# EAGLE library part PIC18F47K42-E_PT (library SamacSys_Parts)
MICROCHIP - PIC18F47K42-E/PT - 128KB F , 8KB RAM, 1KB EEPROM, 12- ADC2, V I , DMA, MAP, DIA, DAC, C , PWM, CWG, HLT, WWDT, SCAN/CRC, ZCD, PPS, UART, SPI/I2C, IDLE/DOZE/PMD 44 TQFP 10 10 1 TRAY Source: Datasheet <https://www.mouser.com/datasheet/2/268/Microchip 8bit mcu PIC18 L_F26_27_45_46_47_55_56_-1281643.pdf>
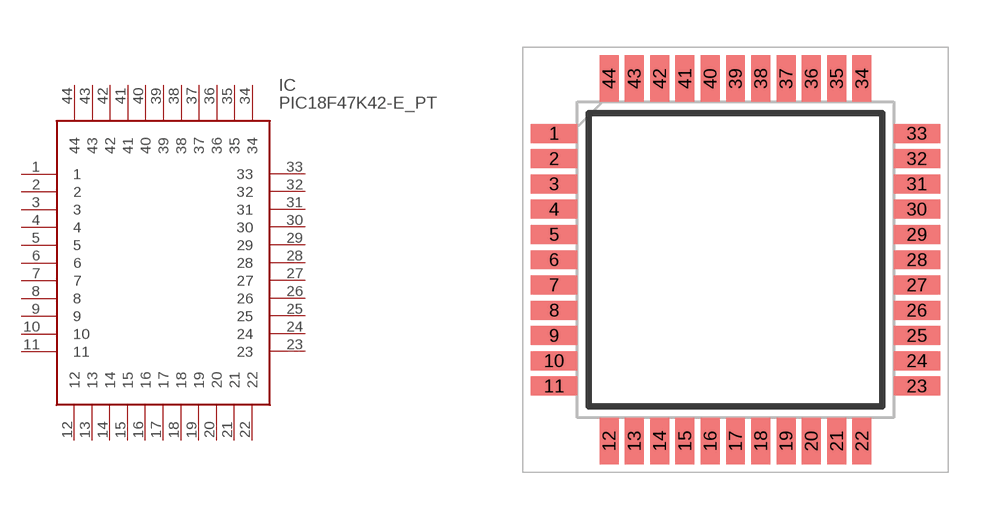
[diagram p6: symbol with the pads of QFP80P1200X1200X120-44N; footprint QFP80P1200X1200X120-44N]

Designator prefix IC

## PIC18F47K42-E_PT (DESCRIPTION: MICROCHIP - PIC18F47K42-E/PT - 128KB F , 8KB RAM, 1KB EEPROM, 12- ADC2, V I , DMA, MAP, DIA, DAC, C , PWM, CWG, HLT, WWDT, SCAN/CRC, ZCD, PPS, UART, SPI/I2C, IDLE/DOZE/PMD 44 TQFP 10 10 1 TRAY; HEIGHT: 1.2mm; MANUFACTURER_NAME: Microchip; MANUFACTURER_PART_NUMBER: PIC18F47K42-E/PT)  [QFP80P1200X1200X120-44N]
1  1
2  2
3  3
4  4
5  5
6  6
7  7
8  8
9  9
10  10
11  11
12  12
13  13
14  14
15  15
16  16
17  17
18  18
19  19
20  20
21  21
22  22
23  23
24  24
25  25
26  26
27  27
28  28
29  29
30  30
31  31
32  32
33  33
34  34
35  35
36  36
37  37
38  38
39  39
40  40
41  41
42  42
43  43
44  44

## Footprint QFP80P1200X1200X120-44N (pad centres in mm)
(PT)44-Lead(TQFP)
smd 1.475 x 0.6: 1 -5.738,4; 2 -5.738,3.2; 3 -5.738,2.4; 4 -5.738,1.6; 5 -5.738,0.8; 6 -5.738,0; 7 -5.738,-0.8; 8 -5.738,-1.6; 9 -5.738,-2.4; 10 -5.738,-3.2; 11 -5.738,-4; 23 5.738,-4; 24 5.738,-3.2; 25 5.738,-2.4; 26 5.738,-1.6; 27 5.738,-0.8; 28 5.738,0; 29 5.738,0.8; 30 5.738,1.6; 31 5.738,2.4; 32 5.738,3.2; 33 5.738,4
smd 0.6 x 1.475: 12 -4,-5.738; 13 -3.2,-5.738; 14 -2.4,-5.738; 15 -1.6,-5.738; 16 -0.8,-5.738; 17 0,-5.738; 18 0.8,-5.738; 19 1.6,-5.738; 20 2.4,-5.738; 21 3.2,-5.738; 22 4,-5.738; 34 4,5.738; 35 3.2,5.738; 36 2.4,5.738; 37 1.6,5.738; 38 0.8,5.738; 39 0,5.738; 40 -0.8,5.738; 41 -1.6,5.738; 42 -2.4,5.738; 43 -3.2,5.738; 44 -4,5.738